# Altium footprint library POM-2738P-R.PcbLib: 1 footprints
Each footprint in its own frame and in the unit in brackets; x right, y up, seen from the top. Pads: shape width x height; smd on the part's side, far side on the other; paste and mask are expansions set on the pad; w line width, h text height; cw(c..) or ccw(c..) is an arc to the next point about the centre after c.
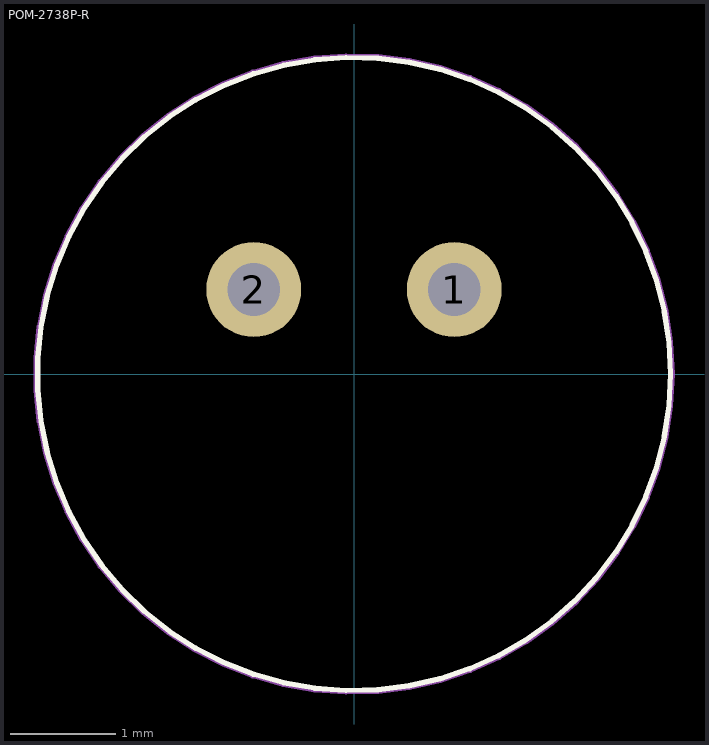
[diagram p0: the footprint, top view; thin cyan lines are the x and y axes]

## POM-2738P-R [mm]
pads (2):
  round 0.9 hole 0.5 mask+0: 1(0.95,0.8) 2(-0.95,0.8)
Top Overlay:
  circle w0.05: c0,0 r3
Mechanical 3:
  circle w0.05: c0,0 r3.005
Mechanical 5:
  circle w0.05: c0,0 r3.008
Mechanical 7:
  circle w0.05: c0,0 r3.015
Mechanical 9:
  text "'.Designator'" at -5.2,-0.55 h1
3D body "MIC POM-2738P-R.STEP": height 2.9, standoff -2.7, extent -3,-3 3,3
3D body: height 1, standoff 0, extent -3,-3 3,3